# EAGLE library part ERC12864FSF-2 (library lcd)
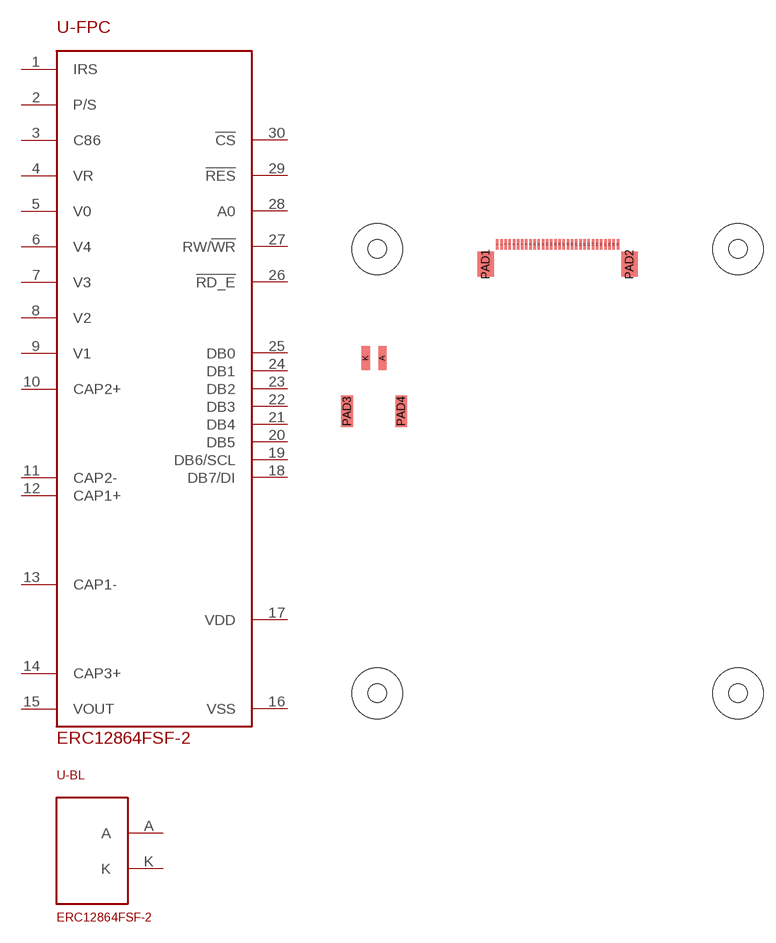
[diagram p1: symbol with the pads of ERC12864-2; footprint ERC12864-2]

Designator prefix -; gates -FPC=ERC12864-2 -BL=ERCXXXXXXFS_BL

## ERC12864FSF-2  [ERC12864-2]
1  -FPC:IRS
2  -FPC:P/S
3  -FPC:C86
4  -FPC:VR
5  -FPC:V0
6  -FPC:V4
7  -FPC:V3
8  -FPC:V2
9  -FPC:V1
10  -FPC:CAP2+
11  -FPC:CAP2-
12  -FPC:CAP1+
13  -FPC:CAP1-
14  -FPC:CAP3+
15  -FPC:VOUT
16  -FPC:VSS
17  -FPC:VDD
18  -FPC:DB7/DI
19  -FPC:DB6/SCL
20  -FPC:DB5
21  -FPC:DB4
22  -FPC:DB3
23  -FPC:DB2
24  -FPC:DB1
25  -FPC:DB0
26  -FPC:!RD_E
27  -FPC:RW/!WR
28  -FPC:A0
29  -FPC:!RES
30  -FPC:!CS
A  -BL:A  pwr
K  -BL:K  pwr

## Footprint ERC12864-2 (pad centres in mm)
smd 0.3 x 1.25: 1 27.512,50.925; 2 28.012,50.925; 3 28.512,50.925; 4 29.012,50.925; 5 29.512,50.925; 6 30.012,50.925; 7 30.512,50.925; 8 31.012,50.925; 9 31.512,50.925; 10 32.012,50.925; 11 32.512,50.925; 12 33.012,50.925; 13 33.512,50.925; 14 34.012,50.925; 15 34.512,50.925; 16 35.012,50.925; 17 35.512,50.925; 18 36.012,50.925; 19 36.512,50.925; 20 37.012,50.925; 21 37.512,50.925; 22 38.012,50.925; 23 38.512,50.925; 24 39.012,50.925; 25 39.512,50.925; 26 40.012,50.925; 27 40.512,50.925; 28 41.012,50.925; 29 41.512,50.925; 30 42.012,50.925
smd 1 x 2.85: A 13.7,37.24; K 11.7,37.24
smd 2 x 3: PAD1 26.112,48.525; PAD2 43.412,48.525
smd 1.4 x 3.8: PAD3 9.45,30.865; PAD4 15.95,30.865
hole 2.2 at 13.07,-3.06
hole 2.2 at 56.47,-3.06
hole 2.2 at 13.07,50.36
hole 2.2 at 56.47,50.36